# Altium schematic symbol library TUSB2046BIRHBT.SchLib: 1 symbol
Pins are listed as number, name and electrical type; pins without a type are passive.

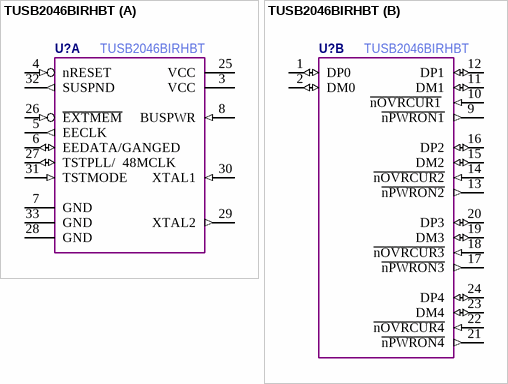
[diagram p0: symbol TUSB2046BIRHBT]

## TUSB2046BIRHBT
designator U?  Manufacturer Part Number: TUSB2046BIRHBT  (hidden comment: *)
part A pins: 3 VCC (power) "3V3", 4 nRESET (in) "3V3", 5 EECLK (out) "3V3", 6 EEDATA/GANGED (io) "3V3", 7 GND (power), 8 BUSPWR (in) "3V3", 25 VCC (power) "3V3", 26 ~{EXTMEM} (in) "3V3", 27 TSTPLL/  48MCLK (io) "3V3", 28 GND (power), 29 XTAL2 (out), 30 XTAL1 (in), 31 TSTMODE (in) "3V3", 32 SUSPND (out) "3V3", 33 GND (power)
part B pins: 1 DP0 (io) "DIFFF PAIR DP", 2 DM0 (io) "DIFFF PAIR DM", 9 ~{nPWRON1} (out) "3V3", 10 ~{nOVRCUR1}  (in) "3V3", 11 DM1 (io) "DIFFF PAIR DM", 12 DP1 (io) "DIFFF PAIR DP", 13 ~{nPWRON2} (out) "3V3", 14 ~{nOVRCUR2} (in) "3V3", 15 DM2 (io) "DIFFF PAIR DM", 16 DP2 (io) "DIFFF PAIR DP", 17 ~{nPWRON3} (out) "3V3", 18 ~{nOVRCUR3} (in) "3V3", 19 DM3 (io) "DIFFF PAIR DM", 20 DP3 (io) "DIFFF PAIR DP", 21 ~{nPWRON4} (out) "3V3", 22 ~{nOVRCUR4} (in) "3V3", 23 DM4 (io) "DIFFF PAIR DM", 24 DP4 (io) "DIFFF PAIR DP"